# EAGLE library part MAX1303 (library ARVP)
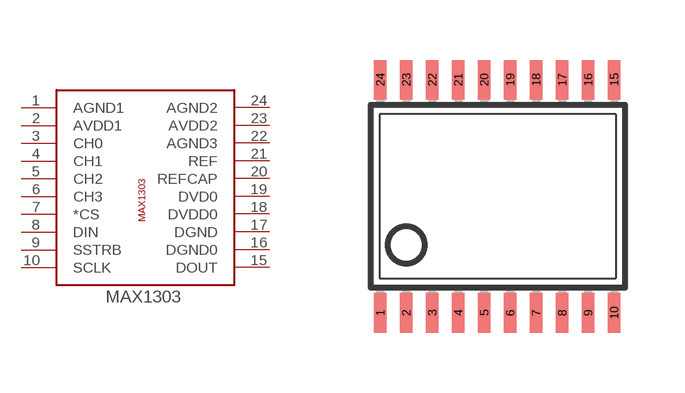
[diagram p11: symbol with the pads of MAX1303; footprint MAX1303]

Designator prefix -

## MAX1303  [MAX1303]
1  AGND1  pwr
2  AVDD1  pwr
3  CH0
4  CH1
5  CH2
6  CH3
7  *CS
8  DIN
9  SSTRB
10  SCLK
15  DOUT
16  DGND0  pwr
17  DGND
18  DVDD0  pwr
19  DVD0  pwr
20  REFCAP  pwr
21  REF  pwr
22  AGND3  pwr
23  AVDD2  pwr
24  AGND2  pwr

## Footprint MAX1303 (pad centres in mm)
smd 0.305 x 0.991: 1 -3.575,-2.918; 2 -2.925,-2.918; 3 -2.275,-2.918; 4 -1.625,-2.918; 5 -0.975,-2.918; 6 -0.325,-2.918; 7 0.325,-2.918; 8 0.975,-2.918; 9 1.625,-2.918; 10 2.275,-2.918; 15 2.275,2.918; 16 1.625,2.918; 17 0.975,2.918; 18 0.325,2.918; 19 -0.325,2.918; 20 -0.975,2.918; 21 -1.625,2.918; 22 -2.275,2.918; 23 -2.925,2.918; 24 -3.575,2.918